# Altium integrated library IRLL2705.IntLib: 1 symbol
Pins are listed as number, name and electrical type; pins without a type are passive.

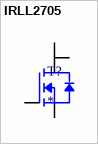
[diagram p0: symbol IRLL2705]

## IRLL2705
designator T?
N-Channel 55V 3.8A (Ta) 1W (Ta) Surface Mount SOT-223; MP: IRLL2705; MF: Infineon Technologies; Price: None; Value: *; Package: SOT-223 Infineon; SnapEDA_Link: https://www.snapeda.com/parts/IRLL2705/Infineon%20Technologies/view-part/1553739/?ref=snap; Check_prices: https://www.snapeda.com/parts/IRLL2705/Infineon%20Technologies/view-part/1553739/?ref=eda; Availability: Unavailable
footprint SOT223
pins: 1 G, 2 D, 3 S, 4 D@1